# Altium schematic symbol library gedj.SchLib: 29 symbols
Pins are listed as number, name and electrical type; pins without a type are passive.

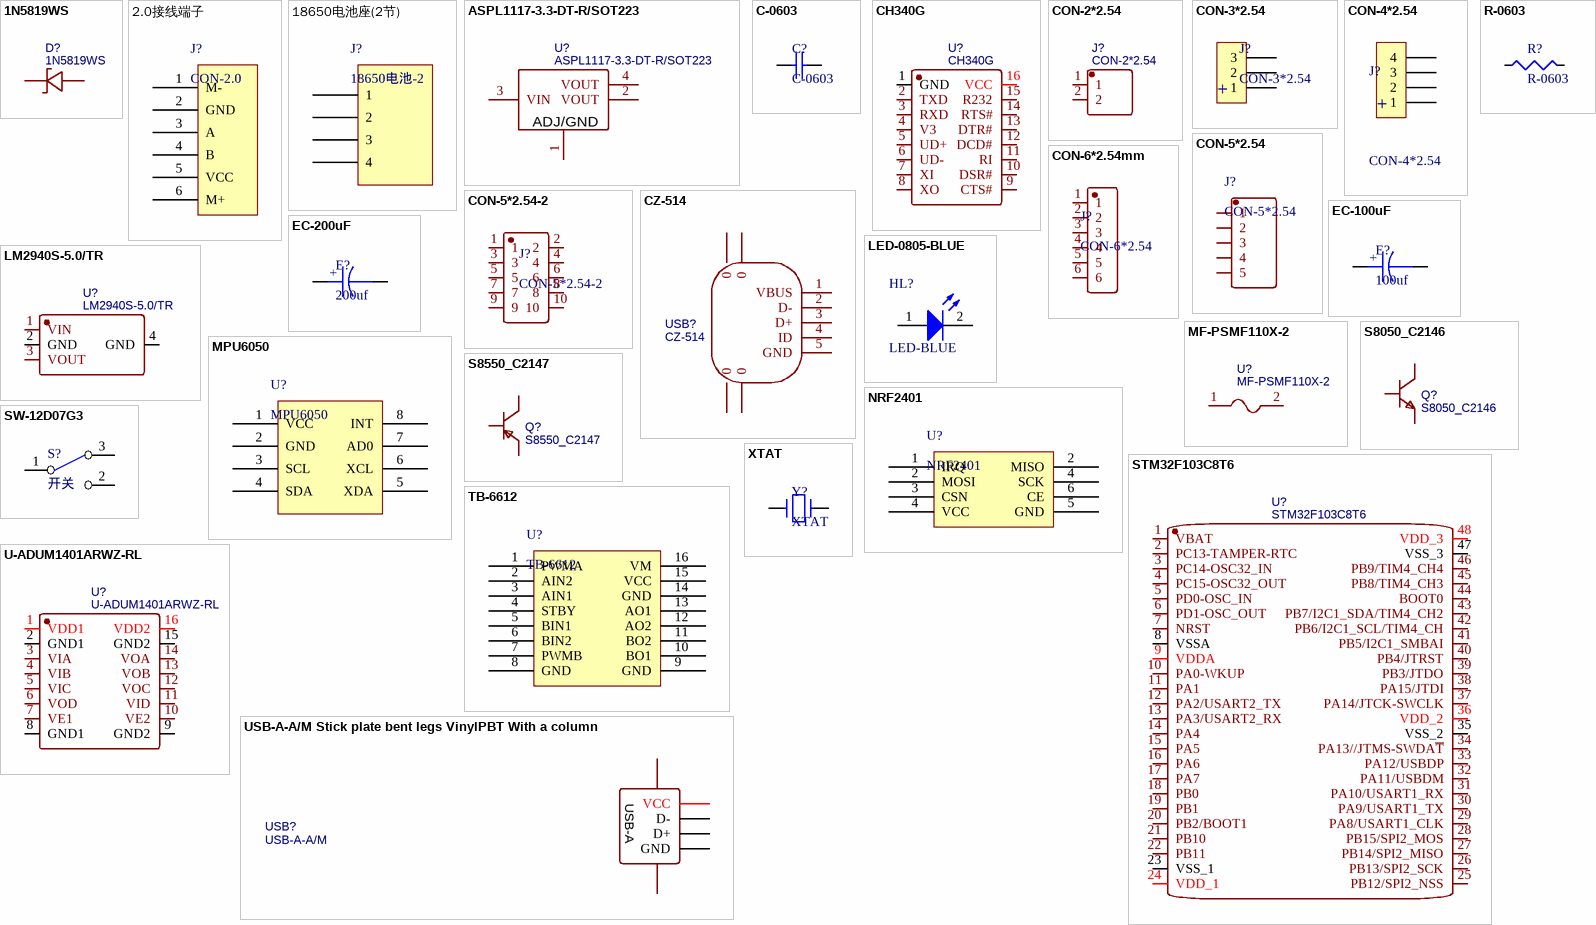
[diagram p0: symbols 1N5819WS to XTAT]

## 1N5819WS
designator D?
BOM_Manufacturer: Guangdong Hottech; Contributor: LCSC; SMT Type: Extend; BOM_Supplier: LCSC; BOM_Supplier Part: C191023; BOM_Manufacturer Part: 1N5819WS; BOM_LCSC Assembly: Yes; spicePre: D; spiceSymbolName: 1N5819WS
footprint SOD-323_L1.8-W1.3-LS2.5-RD
pins: 1 C, 2 A

## 2.0接线端子
designator J?, comment CON-2.0
pins: 1 M-, 2 GND, 3 A, 4 B, 5 VCC, 6 M+

## 18650电池座(2节)
designator J?, comment 18650电池-2
footprint 18650底座（2节）
pins: ?1 1, ?2 2, ?3 3, ?4 4

## ASPL1117-3.3-DT-R/SOT223
designator U?
BOM_Manufacturer: Ascend; Contributor: LCSC; BOM_Supplier: LCSC; BOM_Supplier Part: C520553; BOM_Manufacturer Part: ASPL1117-3.3-DT-R/SOT223; spicePre: U; spiceSymbolName: ASPL1117-3.3-DT-R/SOT223
footprint SOT-223_L6.5-W3.5-P2.30-LS7.0-BR
footprint SOT223
pins: 1 ADJ/GND, 2 VOUT, 3 VIN, 4 VOUT

## C-0603
designator C?
footprint 0603-C
pins: 1, 2

## CH340G
designator U?
BOM_Manufacturer: WCH; SMT Type: Basic; timeStamp: 1468327462; BOM_Supplier: LCSC; BOM_Manufacturer Part: CH340G; BOM_LCSC Assembly: Yes; image: //image.lceda.cn/szlcsc/C14267.jpg; BOM_Supplier Part: C14267; spicePre: U; spiceSymbolName: CH340G
footprint SOIC-16_L9.9-W3.9-P1.27-LS6.0-BR
pins: 1 GND, 2 TXD, 3 RXD, 4 V3, 5 UD+, 6 UD-, 7 XI, 8 XO, 9 CTS#, 10 DSR#, 11 RI, 12 DCD#, 13 DTR#, 14 RTS#, 15 R232, 16 VCC

## CON-2*2.54
designator J?
BOM_Manufacturer: Ckmtw; BOM_Manufacturer Part: 210S-1*2P L=11.6MMGold-plated black; Contributor: LCSC; BOM_Supplier: LCSC; BOM_Supplier Part: C124375; spicePre: H; spiceSymbolName: 210S-1*2P L=11.6MMGold-plated black
footprint CON-2*2.54
pins: 1, 2

## CON-3*2.54
designator J?
footprint CON-3*2.54
pins: 1, 2, 3
text: +

## CON-4*2.54
designator J?
footprint PH-4*2.54
footprint CON-4*2.54
pins: 1, 2, 3, 4
text: +

## CON-5*2.54
designator J?
footprint Header-1*5P_2.54mm
pins: 1, 2, 3, 4, 5

## CON-5*2.54-2
designator J?
pins: 1, 2, 3, 4, 5, 6, 7, 8, 9, 10

## CON-6*2.54mm
designator J?, comment CON-6*2.54
pins: 1, 2, 3, 4, 5, 6

## CZ-514
designator USB?
BOM_Manufacturer: SOFNG; Contributor: LCSC; BOM_Supplier: LCSC; BOM_Supplier Part: C498172; BOM_Manufacturer Part: CZ-514; spicePre: U; spiceSymbolName: CZ-514
footprint MICRO-USB-SMD_MICRO-USB-13
pins: 0, 0, 0, 0, 1 VBUS, 2 D-, 3 D+, 4 ID, 5 GND

## EC-100uF
designator E?, comment 100uf
footprint SMD-100uf
pins: 1, 2
text: +

## EC-200uF
designator E?, comment 200uf
footprint SMD-220UF
pins: 1, 2
text: +

## LED-0805-BLUE
designator HL?, comment LED-BLUE
LED-0805-BLUE
footprint LED-0805-G
footprint LED-0805-G
footprint LED-0805
pins: 1 A, 2 K

## LM2940S-5.0/TR
designator U?
BOM_Manufacturer: HGSEMI; Contributor: LCSC; BOM_Supplier: LCSC; BOM_Supplier Part: C434496; BOM_Manufacturer Part: LM2940S-5.0/TR; spicePre: U; spiceSymbolName: LM2940S-5.0/TR
footprint TO-263
pins: 1 VIN, 2 GND, 3 VOUT, 4 GND

## MF-PSMF110X-2
designator U?
BOM_Manufacturer: BOURNS; SMT Type: Extend; BOM_Supplier: LCSC; BOM_Manufacturer Part: MF-PSMF110X-2; BOM_Supplier Part: C89658; BOM_LCSC Assembly: Yes; spicePre: U; spiceSymbolName: MF-PSMF110X-2
footprint F0805
pins: 1, 2

## MPU6050
designator U?
pins: 1 VCC, 2 GND, 3 SCL, 4 SDA, 5 XDA, 6 XCL, 7 AD0, 8 INT

## NRF2401
designator U?
pins: 1 IRQ, 2 MOSI, 2 MISO, 3 CSN, 4 VCC, 4 SCK, 5 GND, 6 CE

## R-0603
designator R?
footprint R-0603
pins: 1, 2

## S8050_C2146
designator Q?
BOM_Manufacturer: CJ; BOM_Manufacturer Part: S8050; SMT Type: Basic; BOM_Supplier: LCSC; image: //image.lceda.cn/szlcsc/C2146.jpg; BOM_Supplier Part: C2146; BOM_LCSC Assembly: Yes; spicePre: Q; spiceSymbolName: S8050_C2146
footprint SOT-23-3_L3.0-W1.7-P0.95-LS2.9-BR
footprint SOT-23-3
pins: 1 B, 2 E, 3 C

## S8550_C2147
designator Q?
BOM_Manufacturer: CJ; BOM_Manufacturer Part: S8550; SMT Type: Extend; BOM_Supplier: LCSC; image: //image.lceda.cn/szlcsc/C2147.jpg; BOM_Supplier Part: C2147; BOM_LCSC Assembly: Yes; spicePre: Q; spiceSymbolName: S8550_C2147
footprint SOT-23-3
pins: 1 B, 2 E, 3 C

## STM32F103C8T6
designator U?
BOM_Manufacturer: STMicroelectronics; SMT Type: Basic; timeStamp: 1455028086; BOM_Supplier: LCSC; BOM_Manufacturer Part: STM32F103C8T6; BOM_LCSC Assembly: Yes; image: //image.lceda.cn/szlcsc/C8734.jpg; BOM_Supplier Part: C8734; spicePre: U; spiceSymbolName: STM32F103C8T6
footprint LQFP-48_L7.0-W7.0-P0.50-LS9.0-BL
pins: 1 VBAT, 2 PC13-TAMPER-RTC, 3 PC14-OSC32_IN, 4 PC15-OSC32_OUT, 5 PD0-OSC_IN, 6 PD1-OSC_OUT, 7 NRST, 8 VSSA, 9 VDDA, 10 PA0-WKUP, 11 PA1, 12 PA2/USART2_TX, 13 PA3/USART2_RX, 14 PA4, 15 PA5, 16 PA6, 17 PA7, 18 PB0, 19 PB1, 20 PB2/BOOT1, 21 PB10, 22 PB11, 23 VSS_1, 24 VDD_1, 25 PB12/SPI2_NSS, 26 PB13/SPI2_SCK, 27 PB14/SPI2_MISO, 28 PB15/SPI2_MOS, 29 PA8/USART1_CLK, 30 PA9/USART1_TX, 31 PA10/USART1_RX, 32 PA11/USBDM, 33 PA12/USBDP, 34 PA13//JTMS-SWDA~{T}, 35 VSS_2, 36 VDD_2, 37 PA14/JTCK-SWCLK, 38 PA15/JTDI, 39 PB3/JTDO, 40 PB4/JTRST, 41 PB5/I2C1_SMBAI, 42 PB6/I2C1_SCL/TIM4_CH, 43 PB7/I2C1_SDA/TIM4_CH2, 44 BOOT0, 45 PB8/TIM4_CH3, 46 PB9/TIM4_CH4, 47 VSS_3, 48 VDD_3

## SW-12D07G3
designator S?, comment 开关
pins: 1 COMMON, 2 NO, 3 NC

## TB-6612
designator U?
footprint TB-6612
pins: 1 PWMA, 2 AIN2, 3 AIN1, 4 STBY, 5 BIN1, 6 BIN2, 7 PWMB, 8 GND, 9 GND, 10 BO1, 11 BO2, 12 AO2, 13 AO1, 14 GND, 15 VCC, 16 VM

## U-ADUM1401ARWZ-RL
designator U?
BOM_Manufacturer: Analog Devices; Contributor: LCSC; SMT Type: Extend; BOM_Supplier: LCSC; BOM_Supplier Part: C201135; BOM_Manufacturer Part: ADUM1401ARWZ-RL; BOM_LCSC Assembly: Yes; spicePre: U; spiceSymbolName: ADUM1401ARWZ-RL
footprint SOIC-16_L10.3-W7.5-P1.27-LS10.3-BL
pins: 1 VDD1, 2 GND1, 3 VIA, 4 VIB, 5 VIC, 6 VOD, 7 VE1, 8 GND1, 9 GND2, 10 VE2, 11 VID, 12 VOC, 13 VOB, 14 VOA, 15 GND2, 16 VDD2

## USB-A-A/M Stick plate bent legs VinylPBT With a column
designator USB?, comment USB-A-A/M
BOM_Manufacturer: ValuePro; BOM_Manufacturer Part: A/M Stick plate bent legs VinylPBT With a column; BOM_Supplier: LCSC; image: //image.lceda.cn/szlcsc/C46394.jpg; BOM_Supplier Part: C46394; spicePre: U; spiceSymbolName: USB-A-A/M Stick plate bent legs VinylPBT With a column
footprint USB-A-SMD_USB-A-1-TH
pins: 1 VCC, 2 D-, 3 D+, 4 GND, 5, 6
text: USB-A

## XTAT
designator Y?
pins: 1, 2